# Altium schematic symbol library PCB_Switches.SchLib: 1 symbol
Pins are listed as number, name and electrical type; pins without a type are passive.

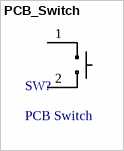
[diagram p0: symbol PCB_Switch]

## PCB_Switch
designator SW?, comment PCB Switch  (no BOM)
footprint SW_10mm
footprint SW_20mm
footprint SW_8mm
footprint SW_5mm
pins: 1, 2